# Altium footprint library STM32.PcbLib: 13 footprints
Each footprint in its own frame and in the unit in brackets; x right, y up, seen from the top. Pads: shape width x height; smd on the part's side, far side on the other; paste and mask are expansions set on the pad; w line width, h text height; cw(c..) or ccw(c..) is an arc to the next point about the centre after c.
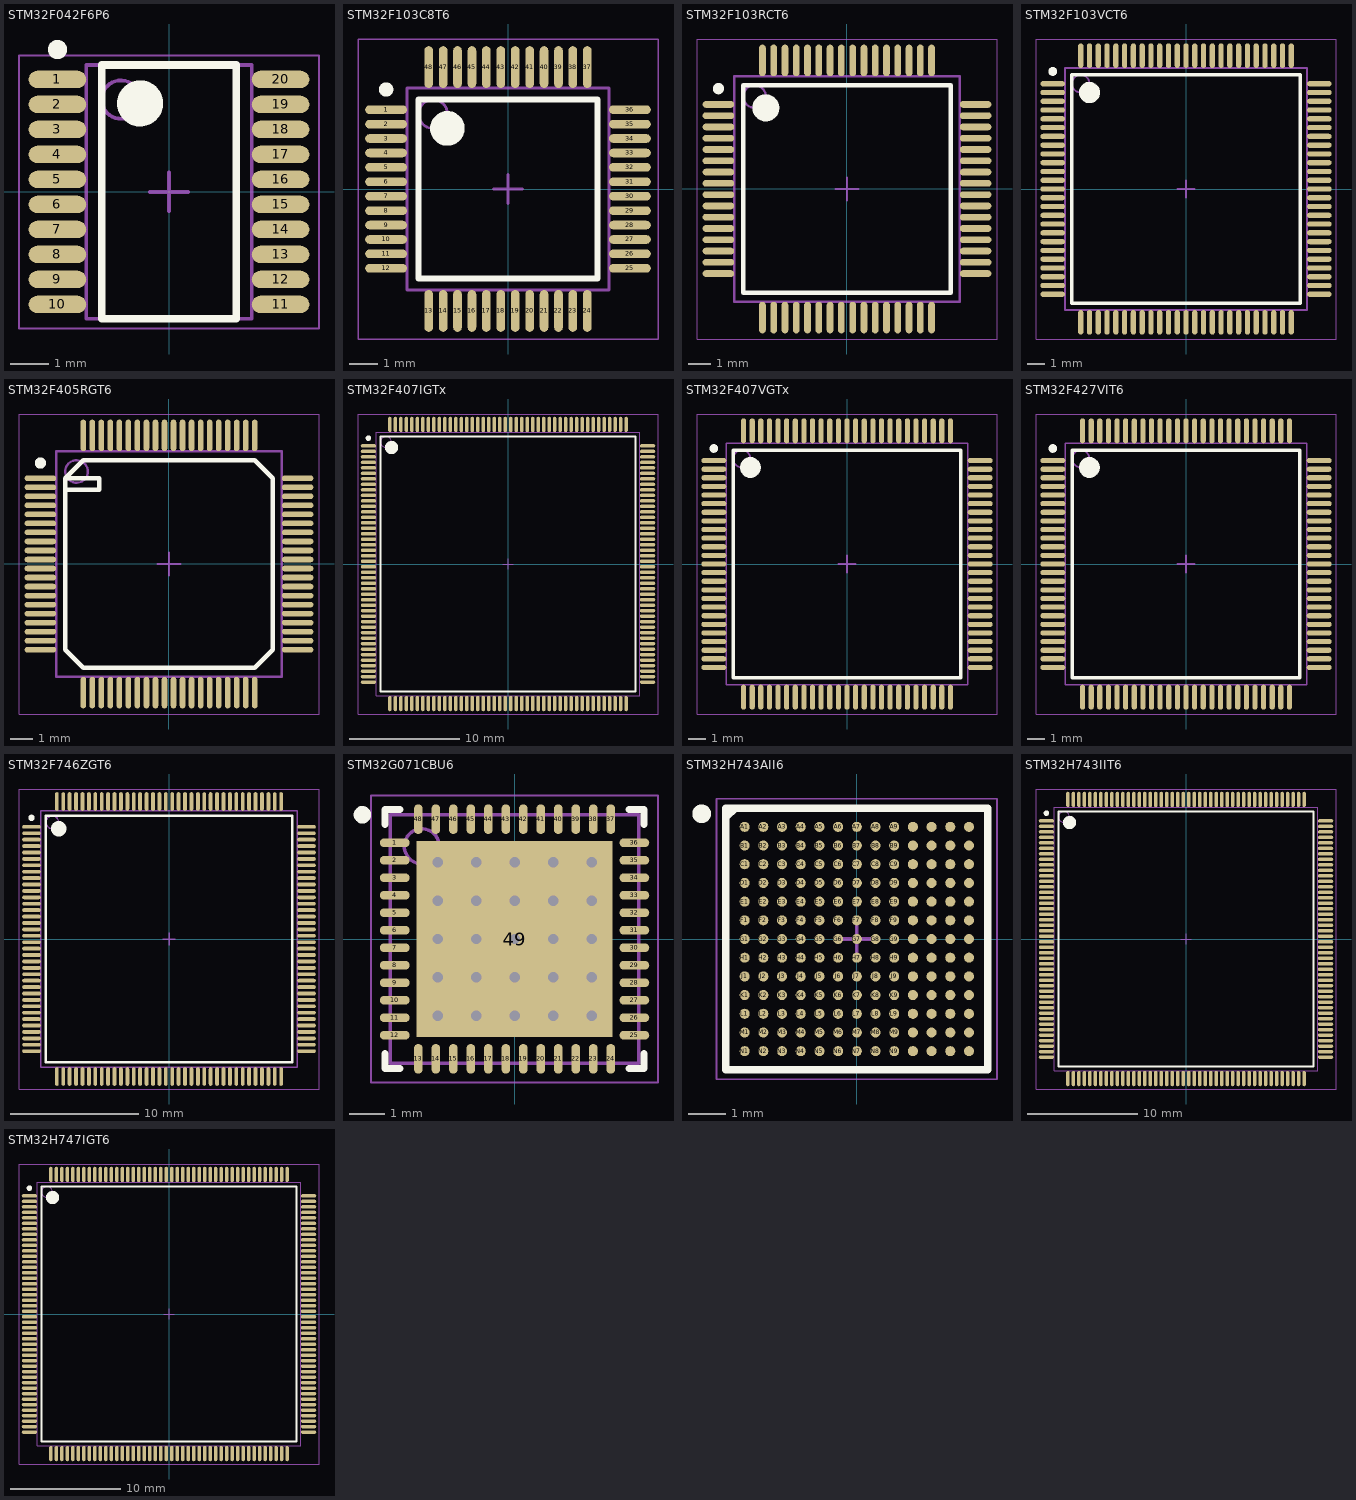
[diagram p0: the footprints below, top view; thin cyan lines are the x and y axes]

## STM32F042F6P6 [mm] "TSOP, 20-Leads, Body 6.50x4.40mm, Pitch 0.65mm, IPC Medium Density"
height 1.2
pads (20):
  oval 1.5x0.45 smd: 1(-2.9,2.925) 2(-2.9,2.275) 3(-2.9,1.625) 4(-2.9,0.975) 5(-2.9,0.325) 6(-2.9,-0.325) 7(-2.9,-0.975) 8(-2.9,-1.625) 9(-2.9,-2.275) 10(-2.9,-2.925) 11(2.9,-2.925) 12(2.9,-2.275) 13(2.9,-1.625) 14(2.9,-0.975) 15(2.9,-0.325) 16(2.9,0.325) 17(2.9,0.975) 18(2.9,1.625) 19(2.9,2.275) 20(2.9,2.925)
Top Overlay:
  circle w0.6: c-0.75,2.3 r0.3
  circle w0.25: c-2.9,3.7 r0.125
  lines w0.2: -1.75,-3.3 1.75,-3.3 1.75,3.3 -1.75,3.3 -1.75,-3.3
Top Designator:
  text ".Designator" at -5.998,-0.4 h1.2
Mechanical 13:
  circle w0.1: c-1.25,2.4 r0.5
  lines w0.1: -2.15,-3.3 2.15,-3.3 2.15,3.3 -2.15,3.3 -2.15,-3.3
Mechanical 15:
  lines w0.05: -3.9,-3.55 3.9,-3.55 3.9,3.55 -3.9,3.55 -3.9,-3.55
  lines w0.1: -0.5,0 0.5,0 ; 0,-0.5 0,0.5
3D body "TSOP65P640X120-20N.step": height 1.2, standoff 0, extent -3.2,-3.3 3.2,3.3

## STM32F103C8T6 [mm] "TSQFP, 48-Leads, Body 7.00x7.00mm, Pitch 0.50mm, IPC Medium Density"
height 1.6
pads (48):
  oval 1.45x0.3 smd: 1(-4.225,2.75) 2(-4.225,2.25) 3(-4.225,1.75) 4(-4.225,1.25) 5(-4.225,0.75) 6(-4.225,0.25) 7(-4.225,-0.25) 8(-4.225,-0.75) 9(-4.225,-1.25) 10(-4.225,-1.75) 11(-4.225,-2.25) 12(-4.225,-2.75) 25(4.225,-2.75) 26(4.225,-2.25) 27(4.225,-1.75) 28(4.225,-1.25) 29(4.225,-0.75) 30(4.225,-0.25) 31(4.225,0.25) 32(4.225,0.75) 33(4.225,1.25) 34(4.225,1.75) 35(4.225,2.25) 36(4.225,2.75)
  oval 0.3x1.45 smd: 13(-2.75,-4.225) 14(-2.25,-4.225) 15(-1.75,-4.225) 16(-1.25,-4.225) 17(-0.75,-4.225) 18(-0.25,-4.225) 19(0.25,-4.225) 20(0.75,-4.225) 21(1.25,-4.225) 22(1.75,-4.225) 23(2.25,-4.225) 24(2.75,-4.225) 37(2.75,4.225) 38(2.25,4.225) 39(1.75,4.225) 40(1.25,4.225) 41(0.75,4.225) 42(0.25,4.225) 43(-0.25,4.225) 44(-0.75,4.225) 45(-1.25,4.225) 46(-1.75,4.225) 47(-2.25,4.225) 48(-2.75,4.225)
Top Overlay:
  circle w0.25: c-4.225,3.45 r0.125
  circle w0.6: c-2.1,2.1 r0.3
  lines w0.2: -3.1,-3.1 -3.1,3.1 3.1,3.1 3.1,-3.1 -3.1,-3.1
Top Designator:
  text ".Designator" at -5.998,-0.4 h1.2
Mechanical 13:
  circle w0.1: c-2.6,2.6 r0.5
  lines w0.1: -3.5,-3.5 -3.5,3.5 3.5,3.5 3.5,-3.5 -3.5,-3.5
Mechanical 15:
  lines w0.05: -5.2,-5.2 -5.2,5.2 5.2,5.2 5.2,-5.2 -5.2,-5.2
  lines w0.1: -0.5,0 0.5,0 ; 0,-0.5 0,0.5
3D body "TSQFP50P900X900X160-48N.step": height 1.6, standoff 0, extent -4.5,-4.5 4.5,4.5

## STM32F103RCT6 [mm] "TSQFP, 64-Leads, Body 10.00x10.00mm, Pitch 0.50mm, IPC Medium Density"
height 1.6
pads (64):
  oval 1.4x0.3 smd: 1(-5.7,3.75) 2(-5.7,3.25) 3(-5.7,2.75) 4(-5.7,2.25) 5(-5.7,1.75) 6(-5.7,1.25) 7(-5.7,0.75) 8(-5.7,0.25) 9(-5.7,-0.25) 10(-5.7,-0.75) 11(-5.7,-1.25) 12(-5.7,-1.75) 13(-5.7,-2.25) 14(-5.7,-2.75) 15(-5.7,-3.25) 16(-5.7,-3.75) 33(5.7,-3.75) 34(5.7,-3.25) 35(5.7,-2.75) 36(5.7,-2.25) 37(5.7,-1.75) 38(5.7,-1.25) 39(5.7,-0.75) 40(5.7,-0.25) 41(5.7,0.25) 42(5.7,0.75) 43(5.7,1.25) 44(5.7,1.75) 45(5.7,2.25) 46(5.7,2.75) 47(5.7,3.25) 48(5.7,3.75)
  oval 0.3x1.4 smd: 17(-3.75,-5.7) 18(-3.25,-5.7) 19(-2.75,-5.7) 20(-2.25,-5.7) 21(-1.75,-5.7) 22(-1.25,-5.7) 23(-0.75,-5.7) 24(-0.25,-5.7) 25(0.25,-5.7) 26(0.75,-5.7) 27(1.25,-5.7) 28(1.75,-5.7) 29(2.25,-5.7) 30(2.75,-5.7) 31(3.25,-5.7) 32(3.75,-5.7) 49(3.75,5.7) 50(3.25,5.7) 51(2.75,5.7) 52(2.25,5.7) 53(1.75,5.7) 54(1.25,5.7) 55(0.75,5.7) 56(0.25,5.7) 57(-0.25,5.7) 58(-0.75,5.7) 59(-1.25,5.7) 60(-1.75,5.7) 61(-2.25,5.7) 62(-2.75,5.7) 63(-3.25,5.7) 64(-3.75,5.7)
Top Overlay:
  circle w0.6: c-3.6,3.6 r0.3
  circle w0.25: c-5.7,4.45 r0.125
  lines w0.2: -4.6,-4.6 4.6,-4.6 4.6,4.6 -4.6,4.6 -4.6,-4.6
Top Designator:
  text ".Designator" at -5.998,-0.4 h1.2
Mechanical 13:
  circle w0.1: c-4.1,4.1 r0.5
  lines w0.1: -5,-5 5,-5 5,5 -5,5 -5,-5
Mechanical 15:
  lines w0.05: -6.65,-6.65 6.65,-6.65 6.65,6.65 -6.65,6.65 -6.65,-6.65
  lines w0.1: -0.5,0 0.5,0 ; 0,-0.5 0,0.5
3D body "QFP127P600-8N.step": height 1.6, standoff 0, extent -6,-6 6,6

## STM32F103VCT6 [mm]
height 1.6
pads (100):
  oval 1.4x0.3 smd: 1(-7.6,6) 2(-7.6,5.5) 3(-7.6,5) 4(-7.6,4.5) 5(-7.6,4) 6(-7.6,3.5) 7(-7.6,3) 8(-7.6,2.5) 9(-7.6,2) 10(-7.6,1.5) 11(-7.6,1) 12(-7.6,0.5) 13(-7.6,0) 14(-7.6,-0.5) 15(-7.6,-1) 16(-7.6,-1.5) 17(-7.6,-2) 18(-7.6,-2.5) 19(-7.6,-3) 20(-7.6,-3.5) 21(-7.6,-4) 22(-7.6,-4.5) 23(-7.6,-5) 24(-7.6,-5.5) 25(-7.6,-6) 51(7.6,-6) 52(7.6,-5.5) 53(7.6,-5) 54(7.6,-4.5) 55(7.6,-4) 56(7.6,-3.5) 57(7.6,-3) 58(7.6,-2.5) 59(7.6,-2) 60(7.6,-1.5) 61(7.6,-1) 62(7.6,-0.5) 63(7.6,0) 64(7.6,0.5) 65(7.6,1) 66(7.6,1.5) 67(7.6,2) 68(7.6,2.5) 69(7.6,3) 70(7.6,3.5) 71(7.6,4) 72(7.6,4.5) 73(7.6,5) 74(7.6,5.5) 75(7.6,6)
  oval 0.3x1.4 smd: 26(-6,-7.6) 27(-5.5,-7.6) 28(-5,-7.6) 29(-4.5,-7.6) 30(-4,-7.6) 31(-3.5,-7.6) 32(-3,-7.6) 33(-2.5,-7.6) 34(-2,-7.6) 35(-1.5,-7.6) 36(-1,-7.6) 37(-0.5,-7.6) 38(0,-7.6) 39(0.5,-7.6) 40(1,-7.6) 41(1.5,-7.6) 42(2,-7.6) 43(2.5,-7.6) 44(3,-7.6) 45(3.5,-7.6) 46(4,-7.6) 47(4.5,-7.6) 48(5,-7.6) 49(5.5,-7.6) 50(6,-7.6) 76(6,7.6) 77(5.5,7.6) 78(5,7.6) 79(4.5,7.6) 80(4,7.6) 81(3.5,7.6) 82(3,7.6) 83(2.5,7.6) 84(2,7.6) 85(1.5,7.6) 86(1,7.6) 87(0.5,7.6) 88(0,7.6) 89(-0.5,7.6) 90(-1,7.6) 91(-1.5,7.6) 92(-2,7.6) 93(-2.5,7.6) 94(-3,7.6) 95(-3.5,7.6) 96(-4,7.6) 97(-4.5,7.6) 98(-5,7.6) 99(-5.5,7.6) 100(-6,7.6)
Top Overlay:
  circle w0.6: c-5.5,5.5 r0.3
  circle w0.25: c-7.6,6.7 r0.125
  lines w0.2: -6.5,-6.5 6.5,-6.5 6.5,6.5 -6.5,6.5 -6.5,-6.5
Top Assembly:
  circle w0.1: c-6,6 r0.5
  lines w0.1: -6.9,-6.9 6.9,-6.9 6.9,6.9 -6.9,6.9 -6.9,-6.9
Top Courtyard:
  lines w0.05: -8.55,-8.55 8.55,-8.55 8.55,8.55 -8.55,8.55 -8.55,-8.55
  lines w0.1: -0.5,0 0.5,0 ; 0,-0.5 0,0.5
Top Designator:
  text ".Designator" at -5.998,-0.4 h1.2
3D body "QFP127P600-8N.step": height 1.6, standoff 0, extent -7.9,-7.9 7.9,7.9

## STM32F405RGT6 [mm] "CQFP, 80-Leads, Body 12.00x12.00mm, Pitch 0.40mm, IPC Medium Density"
height 1.6
pads (80):
  oval 1.4x0.25 smd: 1(-5.7,3.8) 2(-5.7,3.4) 3(-5.7,3) 4(-5.7,2.6) 5(-5.7,2.2) 6(-5.7,1.8) 7(-5.7,1.4) 8(-5.7,1) 9(-5.7,0.6) 10(-5.7,0.2) 11(-5.7,-0.2) 12(-5.7,-0.6) 13(-5.7,-1) 14(-5.7,-1.4) 15(-5.7,-1.8) 16(-5.7,-2.2) 17(-5.7,-2.6) 18(-5.7,-3) 19(-5.7,-3.4) 20(-5.7,-3.8) 41(5.7,-3.8) 42(5.7,-3.4) 43(5.7,-3) 44(5.7,-2.6) 45(5.7,-2.2) 46(5.7,-1.8) 47(5.7,-1.4) 48(5.7,-1) 49(5.7,-0.6) 50(5.7,-0.2) 51(5.7,0.2) 52(5.7,0.6) 53(5.7,1) 54(5.7,1.4) 55(5.7,1.8) 56(5.7,2.2) 57(5.7,2.6) 58(5.7,3) 59(5.7,3.4) 60(5.7,3.8)
  oval 0.25x1.4 smd: 21(-3.8,-5.7) 22(-3.4,-5.7) 23(-3,-5.7) 24(-2.6,-5.7) 25(-2.2,-5.7) 26(-1.8,-5.7) 27(-1.4,-5.7) 28(-1,-5.7) 29(-0.6,-5.7) 30(-0.2,-5.7) 31(0.2,-5.7) 32(0.6,-5.7) 33(1,-5.7) 34(1.4,-5.7) 35(1.8,-5.7) 36(2.2,-5.7) 37(2.6,-5.7) 38(3,-5.7) 39(3.4,-5.7) 40(3.8,-5.7) 61(3.8,5.7) 62(3.4,5.7) 63(3,5.7) 64(2.6,5.7) 65(2.2,5.7) 66(1.8,5.7) 67(1.4,5.7) 68(1,5.7) 69(0.6,5.7) 70(0.2,5.7) 71(-0.2,5.7) 72(-0.6,5.7) 73(-1,5.7) 74(-1.4,5.7) 75(-1.8,5.7) 76(-2.2,5.7) 77(-2.6,5.7) 78(-3,5.7) 79(-3.4,5.7) 80(-3.8,5.7)
Top Overlay:
  circle w0.25: c-5.7,4.475 r0.125
  lines w0.2: -4.6,3.3 -3.1,3.3 -3.1,3.8 -4.6,3.8 ; -4.6,3.8 -4.6,-3.8 -3.8,-4.6 3.8,-4.6 4.6,-3.8 4.6,3.8 3.8,4.6 -3.8,4.6 -4.6,3.8
Top Designator:
  text ".Designator" at -5.998,-0.4 h1.2
Mechanical 13:
  circle w0.1: c-4.1,4.1 r0.5
  lines w0.1: -5,-5 -5,5 5,5 5,-5 -5,-5
Mechanical 15:
  lines w0.05: -6.65,-6.65 -6.65,6.65 6.65,6.65 6.65,-6.65 -6.65,-6.65
  lines w0.1: -0.5,0 0.5,0 ; 0,-0.5 0,0.5
3D body "CQFP40P1200X1200X160-80N.step": height 1.55, standoff 0, extent -6,-6 6,6

## STM32F407IGTx [mm] "TSQFP, 176-Leads, Body 24.00x24.00mm, Pitch 0.50mm, IPC Medium Density"
height 1.6
pads (176):
  oval 1.4x0.3 smd: 1(-12.7,10.75) 2(-12.7,10.25) 3(-12.7,9.75) 4(-12.7,9.25) 5(-12.7,8.75) 6(-12.7,8.25) 7(-12.7,7.75) 8(-12.7,7.25) 9(-12.7,6.75) 10(-12.7,6.25) 11(-12.7,5.75) 12(-12.7,5.25) 13(-12.7,4.75) 14(-12.7,4.25) 15(-12.7,3.75) 16(-12.7,3.25) 17(-12.7,2.75) 18(-12.7,2.25) 19(-12.7,1.75) 20(-12.7,1.25) 21(-12.7,0.75) 22(-12.7,0.25) 23(-12.7,-0.25) 24(-12.7,-0.75) 25(-12.7,-1.25) 26(-12.7,-1.75) 27(-12.7,-2.25) 28(-12.7,-2.75) 29(-12.7,-3.25) 30(-12.7,-3.75) 31(-12.7,-4.25) 32(-12.7,-4.75) 33(-12.7,-5.25) 34(-12.7,-5.75) 35(-12.7,-6.25) 36(-12.7,-6.75) 37(-12.7,-7.25) 38(-12.7,-7.75) 39(-12.7,-8.25) 40(-12.7,-8.75) 41(-12.7,-9.25) 42(-12.7,-9.75) 43(-12.7,-10.25) 44(-12.7,-10.75) 89(12.7,-10.75) 90(12.7,-10.25) 91(12.7,-9.75) 92(12.7,-9.25) 93(12.7,-8.75) 94(12.7,-8.25) 95(12.7,-7.75) 96(12.7,-7.25) 97(12.7,-6.75) 98(12.7,-6.25) 99(12.7,-5.75) 100(12.7,-5.25) 101(12.7,-4.75) 102(12.7,-4.25) 103(12.7,-3.75) 104(12.7,-3.25) 105(12.7,-2.75) 106(12.7,-2.25) 107(12.7,-1.75) 108(12.7,-1.25) 109(12.7,-0.75) 110(12.7,-0.25) 111(12.7,0.25) 112(12.7,0.75) 113(12.7,1.25) 114(12.7,1.75) 115(12.7,2.25) 116(12.7,2.75) 117(12.7,3.25) 118(12.7,3.75) 119(12.7,4.25) 120(12.7,4.75) 121(12.7,5.25) 122(12.7,5.75) 123(12.7,6.25) 124(12.7,6.75) 125(12.7,7.25) 126(12.7,7.75) 127(12.7,8.25) 128(12.7,8.75) 129(12.7,9.25) 130(12.7,9.75) 131(12.7,10.25) 132(12.7,10.75)
  oval 0.3x1.4 smd: 45(-10.75,-12.7) 46(-10.25,-12.7) 47(-9.75,-12.7) 48(-9.25,-12.7) 49(-8.75,-12.7) 50(-8.25,-12.7) 51(-7.75,-12.7) 52(-7.25,-12.7) 53(-6.75,-12.7) 54(-6.25,-12.7) 55(-5.75,-12.7) 56(-5.25,-12.7) 57(-4.75,-12.7) 58(-4.25,-12.7) 59(-3.75,-12.7) 60(-3.25,-12.7) 61(-2.75,-12.7) 62(-2.25,-12.7) 63(-1.75,-12.7) 64(-1.25,-12.7) 65(-0.75,-12.7) 66(-0.25,-12.7) 67(0.25,-12.7) 68(0.75,-12.7) 69(1.25,-12.7) 70(1.75,-12.7) 71(2.25,-12.7) 72(2.75,-12.7) 73(3.25,-12.7) 74(3.75,-12.7) 75(4.25,-12.7) 76(4.75,-12.7) 77(5.25,-12.7) 78(5.75,-12.7) 79(6.25,-12.7) 80(6.75,-12.7) 81(7.25,-12.7) 82(7.75,-12.7) 83(8.25,-12.7) 84(8.75,-12.7) 85(9.25,-12.7) 86(9.75,-12.7) 87(10.25,-12.7) 88(10.75,-12.7) 133(10.75,12.7) 134(10.25,12.7) 135(9.75,12.7) 136(9.25,12.7) 137(8.75,12.7) 138(8.25,12.7) 139(7.75,12.7) 140(7.25,12.7) 141(6.75,12.7) 142(6.25,12.7) 143(5.75,12.7) 144(5.25,12.7) 145(4.75,12.7) 146(4.25,12.7) 147(3.75,12.7) 148(3.25,12.7) 149(2.75,12.7) 150(2.25,12.7) 151(1.75,12.7) 152(1.25,12.7) 153(0.75,12.7) 154(0.25,12.7) 155(-0.25,12.7) 156(-0.75,12.7) 157(-1.25,12.7) 158(-1.75,12.7) 159(-2.25,12.7) 160(-2.75,12.7) 161(-3.25,12.7) 162(-3.75,12.7) 163(-4.25,12.7) 164(-4.75,12.7) 165(-5.25,12.7) 166(-5.75,12.7) 167(-6.25,12.7) 168(-6.75,12.7) 169(-7.25,12.7) 170(-7.75,12.7) 171(-8.25,12.7) 172(-8.75,12.7) 173(-9.25,12.7) 174(-9.75,12.7) 175(-10.25,12.7) 176(-10.75,12.7)
Top Overlay:
  circle w0.6: c-10.6,10.6 r0.3
  circle w0.25: c-12.7,11.45 r0.125
  lines w0.2: -11.6,-11.6 11.6,-11.6 11.6,11.6 -11.6,11.6 -11.6,-11.6
Top Designator:
  text ".Designator" at -5.998,-0.4 h1.2
Mechanical 13:
  circle w0.1: c-11.1,11.1 r0.5
  lines w0.1: -12,-12 12,-12 12,12 -12,12 -12,-12
Mechanical 15:
  lines w0.05: -13.65,-13.65 13.65,-13.65 13.65,13.65 -13.65,13.65 -13.65,-13.65
  lines w0.1: -0.5,0 0.5,0 ; 0,-0.5 0,0.5
3D body "TSQFP50P2600X2600X160-176N.step": height 1.6, standoff 0, extent -13,-13 13,13

## STM32F407VGTx [mm] "TSQFP, 100-Leads, Body 14.00x14.00mm, Pitch 0.50mm, IPC Medium Density"
height 1.6
pads (100):
  oval 1.45x0.3 smd: 1(-7.725,6) 2(-7.725,5.5) 3(-7.725,5) 4(-7.725,4.5) 5(-7.725,4) 6(-7.725,3.5) 7(-7.725,3) 8(-7.725,2.5) 9(-7.725,2) 10(-7.725,1.5) 11(-7.725,1) 12(-7.725,0.5) 13(-7.725,0) 14(-7.725,-0.5) 15(-7.725,-1) 16(-7.725,-1.5) 17(-7.725,-2) 18(-7.725,-2.5) 19(-7.725,-3) 20(-7.725,-3.5) 21(-7.725,-4) 22(-7.725,-4.5) 23(-7.725,-5) 24(-7.725,-5.5) 25(-7.725,-6) 51(7.725,-6) 52(7.725,-5.5) 53(7.725,-5) 54(7.725,-4.5) 55(7.725,-4) 56(7.725,-3.5) 57(7.725,-3) 58(7.725,-2.5) 59(7.725,-2) 60(7.725,-1.5) 61(7.725,-1) 62(7.725,-0.5) 63(7.725,0) 64(7.725,0.5) 65(7.725,1) 66(7.725,1.5) 67(7.725,2) 68(7.725,2.5) 69(7.725,3) 70(7.725,3.5) 71(7.725,4) 72(7.725,4.5) 73(7.725,5) 74(7.725,5.5) 75(7.725,6)
  oval 0.3x1.45 smd: 26(-6,-7.725) 27(-5.5,-7.725) 28(-5,-7.725) 29(-4.5,-7.725) 30(-4,-7.725) 31(-3.5,-7.725) 32(-3,-7.725) 33(-2.5,-7.725) 34(-2,-7.725) 35(-1.5,-7.725) 36(-1,-7.725) 37(-0.5,-7.725) 38(0,-7.725) 39(0.5,-7.725) 40(1,-7.725) 41(1.5,-7.725) 42(2,-7.725) 43(2.5,-7.725) 44(3,-7.725) 45(3.5,-7.725) 46(4,-7.725) 47(4.5,-7.725) 48(5,-7.725) 49(5.5,-7.725) 50(6,-7.725) 76(6,7.725) 77(5.5,7.725) 78(5,7.725) 79(4.5,7.725) 80(4,7.725) 81(3.5,7.725) 82(3,7.725) 83(2.5,7.725) 84(2,7.725) 85(1.5,7.725) 86(1,7.725) 87(0.5,7.725) 88(0,7.725) 89(-0.5,7.725) 90(-1,7.725) 91(-1.5,7.725) 92(-2,7.725) 93(-2.5,7.725) 94(-3,7.725) 95(-3.5,7.725) 96(-4,7.725) 97(-4.5,7.725) 98(-5,7.725) 99(-5.5,7.725) 100(-6,7.725)
Top Overlay:
  circle w0.25: c-7.725,6.7 r0.125
  circle w0.6: c-5.6,5.6 r0.3
  lines w0.2: -6.6,-6.6 -6.6,6.6 6.6,6.6 6.6,-6.6 -6.6,-6.6
Top Designator:
  text ".Designator" at -5.998,-0.4 h1.2
Mechanical 13:
  circle w0.1: c-6.1,6.1 r0.5
  lines w0.1: -7,-7 -7,7 7,7 7,-7 -7,-7
Mechanical 15:
  lines w0.05: -8.7,-8.7 -8.7,8.7 8.7,8.7 8.7,-8.7 -8.7,-8.7
  lines w0.1: -0.5,0 0.5,0 ; 0,-0.5 0,0.5
3D body "TSQFP50P1600X1600X160-100N.step": height 1.6, standoff 0, extent -8,-8 8,8

## STM32F427VIT6 [mm] "TSQFP, 100-Leads, Body 14.00x14.00mm, Pitch 0.50mm, IPC Medium Density"
height 1.6
pads (100):
  oval 1.45x0.3 smd: 1(-7.725,6) 2(-7.725,5.5) 3(-7.725,5) 4(-7.725,4.5) 5(-7.725,4) 6(-7.725,3.5) 7(-7.725,3) 8(-7.725,2.5) 9(-7.725,2) 10(-7.725,1.5) 11(-7.725,1) 12(-7.725,0.5) 13(-7.725,0) 14(-7.725,-0.5) 15(-7.725,-1) 16(-7.725,-1.5) 17(-7.725,-2) 18(-7.725,-2.5) 19(-7.725,-3) 20(-7.725,-3.5) 21(-7.725,-4) 22(-7.725,-4.5) 23(-7.725,-5) 24(-7.725,-5.5) 25(-7.725,-6) 51(7.725,-6) 52(7.725,-5.5) 53(7.725,-5) 54(7.725,-4.5) 55(7.725,-4) 56(7.725,-3.5) 57(7.725,-3) 58(7.725,-2.5) 59(7.725,-2) 60(7.725,-1.5) 61(7.725,-1) 62(7.725,-0.5) 63(7.725,0) 64(7.725,0.5) 65(7.725,1) 66(7.725,1.5) 67(7.725,2) 68(7.725,2.5) 69(7.725,3) 70(7.725,3.5) 71(7.725,4) 72(7.725,4.5) 73(7.725,5) 74(7.725,5.5) 75(7.725,6)
  oval 0.3x1.45 smd: 26(-6,-7.725) 27(-5.5,-7.725) 28(-5,-7.725) 29(-4.5,-7.725) 30(-4,-7.725) 31(-3.5,-7.725) 32(-3,-7.725) 33(-2.5,-7.725) 34(-2,-7.725) 35(-1.5,-7.725) 36(-1,-7.725) 37(-0.5,-7.725) 38(0,-7.725) 39(0.5,-7.725) 40(1,-7.725) 41(1.5,-7.725) 42(2,-7.725) 43(2.5,-7.725) 44(3,-7.725) 45(3.5,-7.725) 46(4,-7.725) 47(4.5,-7.725) 48(5,-7.725) 49(5.5,-7.725) 50(6,-7.725) 76(6,7.725) 77(5.5,7.725) 78(5,7.725) 79(4.5,7.725) 80(4,7.725) 81(3.5,7.725) 82(3,7.725) 83(2.5,7.725) 84(2,7.725) 85(1.5,7.725) 86(1,7.725) 87(0.5,7.725) 88(0,7.725) 89(-0.5,7.725) 90(-1,7.725) 91(-1.5,7.725) 92(-2,7.725) 93(-2.5,7.725) 94(-3,7.725) 95(-3.5,7.725) 96(-4,7.725) 97(-4.5,7.725) 98(-5,7.725) 99(-5.5,7.725) 100(-6,7.725)
Top Overlay:
  circle w0.25: c-7.725,6.7 r0.125
  circle w0.6: c-5.6,5.6 r0.3
  lines w0.2: -6.6,-6.6 -6.6,6.6 6.6,6.6 6.6,-6.6 -6.6,-6.6
Top Designator:
  text ".Designator" at -5.998,-0.4 h1.2
Mechanical 13:
  circle w0.1: c-6.1,6.1 r0.5
  lines w0.1: -7,-7 -7,7 7,7 7,-7 -7,-7
Mechanical 15:
  lines w0.05: -8.7,-8.7 -8.7,8.7 8.7,8.7 8.7,-8.7 -8.7,-8.7
  lines w0.1: -0.5,0 0.5,0 ; 0,-0.5 0,0.5
3D body "TSQFP50P1600X1600X160-100N.step": height 1.6, standoff 0, extent -8,-8 8,8

## STM32F746ZGT6 [mm] "TSQFP, 144-Leads, Body 20.00x20.00mm, Pitch 0.50mm, IPC Medium Density"
height 1.6
pads (144):
  oval 1.45x0.3 smd: 1(-10.725,8.75) 2(-10.725,8.25) 3(-10.725,7.75) 4(-10.725,7.25) 5(-10.725,6.75) 6(-10.725,6.25) 7(-10.725,5.75) 8(-10.725,5.25) 9(-10.725,4.75) 10(-10.725,4.25) 11(-10.725,3.75) 12(-10.725,3.25) 13(-10.725,2.75) 14(-10.725,2.25) 15(-10.725,1.75) 16(-10.725,1.25) 17(-10.725,0.75) 18(-10.725,0.25) 19(-10.725,-0.25) 20(-10.725,-0.75) 21(-10.725,-1.25) 22(-10.725,-1.75) 23(-10.725,-2.25) 24(-10.725,-2.75) 25(-10.725,-3.25) 26(-10.725,-3.75) 27(-10.725,-4.25) 28(-10.725,-4.75) 29(-10.725,-5.25) 30(-10.725,-5.75) 31(-10.725,-6.25) 32(-10.725,-6.75) 33(-10.725,-7.25) 34(-10.725,-7.75) 35(-10.725,-8.25) 36(-10.725,-8.75) 73(10.725,-8.75) 74(10.725,-8.25) 75(10.725,-7.75) 76(10.725,-7.25) 77(10.725,-6.75) 78(10.725,-6.25) 79(10.725,-5.75) 80(10.725,-5.25) 81(10.725,-4.75) 82(10.725,-4.25) 83(10.725,-3.75) 84(10.725,-3.25) 85(10.725,-2.75) 86(10.725,-2.25) 87(10.725,-1.75) 88(10.725,-1.25) 89(10.725,-0.75) 90(10.725,-0.25) 91(10.725,0.25) 92(10.725,0.75) 93(10.725,1.25) 94(10.725,1.75) 95(10.725,2.25) 96(10.725,2.75) 97(10.725,3.25) 98(10.725,3.75) 99(10.725,4.25) 100(10.725,4.75) 101(10.725,5.25) 102(10.725,5.75) 103(10.725,6.25) 104(10.725,6.75) 105(10.725,7.25) 106(10.725,7.75) 107(10.725,8.25) 108(10.725,8.75)
  oval 0.3x1.45 smd: 37(-8.75,-10.725) 38(-8.25,-10.725) 39(-7.75,-10.725) 40(-7.25,-10.725) 41(-6.75,-10.725) 42(-6.25,-10.725) 43(-5.75,-10.725) 44(-5.25,-10.725) 45(-4.75,-10.725) 46(-4.25,-10.725) 47(-3.75,-10.725) 48(-3.25,-10.725) 49(-2.75,-10.725) 50(-2.25,-10.725) 51(-1.75,-10.725) 52(-1.25,-10.725) 53(-0.75,-10.725) 54(-0.25,-10.725) 55(0.25,-10.725) 56(0.75,-10.725) 57(1.25,-10.725) 58(1.75,-10.725) 59(2.25,-10.725) 60(2.75,-10.725) 61(3.25,-10.725) 62(3.75,-10.725) 63(4.25,-10.725) 64(4.75,-10.725) 65(5.25,-10.725) 66(5.75,-10.725) 67(6.25,-10.725) 68(6.75,-10.725) 69(7.25,-10.725) 70(7.75,-10.725) 71(8.25,-10.725) 72(8.75,-10.725) 109(8.75,10.725) 110(8.25,10.725) 111(7.75,10.725) 112(7.25,10.725) 113(6.75,10.725) 114(6.25,10.725) 115(5.75,10.725) 116(5.25,10.725) 117(4.75,10.725) 118(4.25,10.725) 119(3.75,10.725) 120(3.25,10.725) 121(2.75,10.725) 122(2.25,10.725) 123(1.75,10.725) 124(1.25,10.725) 125(0.75,10.725) 126(0.25,10.725) 127(-0.25,10.725) 128(-0.75,10.725) 129(-1.25,10.725) 130(-1.75,10.725) 131(-2.25,10.725) 132(-2.75,10.725) 133(-3.25,10.725) 134(-3.75,10.725) 135(-4.25,10.725) 136(-4.75,10.725) 137(-5.25,10.725) 138(-5.75,10.725) 139(-6.25,10.725) 140(-6.75,10.725) 141(-7.25,10.725) 142(-7.75,10.725) 143(-8.25,10.725) 144(-8.75,10.725)
Top Overlay:
  circle w0.25: c-10.725,9.45 r0.125
  circle w0.6: c-8.6,8.6 r0.3
  lines w0.2: -9.6,-9.6 -9.6,9.6 9.6,9.6 9.6,-9.6 -9.6,-9.6
Top Designator:
  text ".Designator" at -5.998,-0.4 h1.2
Mechanical 13:
  circle w0.1: c-9.1,9.1 r0.5
  lines w0.1: -10,-10 -10,10 10,10 10,-10 -10,-10
Mechanical 15:
  lines w0.05: -11.7,-11.7 -11.7,11.7 11.7,11.7 11.7,-11.7 -11.7,-11.7
  lines w0.1: -0.5,0 0.5,0 ; 0,-0.5 0,0.5
3D body "TSQFP50P2200X2200X160-144N.step": height 1.6, standoff 0, extent -11,-11 11,11

## STM32G071CBU6 [mm] "QFN, 48-Leads, Body 7.00x7.00mm, Pitch 0.50mm, Thermal Pad 5.60x5.60mm, IPC Medium Density"
height 0.6
pads (49):
  oval 0.85x0.25 smd: 1(-3.425,2.75) 2(-3.425,2.25) 3(-3.425,1.75) 4(-3.425,1.25) 5(-3.425,0.75) 6(-3.425,0.25) 7(-3.425,-0.25) 8(-3.425,-0.75) 9(-3.425,-1.25) 10(-3.425,-1.75) 11(-3.425,-2.25) 12(-3.425,-2.75) 25(3.425,-2.75) 26(3.425,-2.25) 27(3.425,-1.75) 28(3.425,-1.25) 29(3.425,-0.75) 30(3.425,-0.25) 31(3.425,0.25) 32(3.425,0.75) 33(3.425,1.25) 34(3.425,1.75) 35(3.425,2.25) 36(3.425,2.75)
  oval 0.25x0.85 smd: 13(-2.75,-3.425) 14(-2.25,-3.425) 15(-1.75,-3.425) 16(-1.25,-3.425) 17(-0.75,-3.425) 18(-0.25,-3.425) 19(0.25,-3.425) 20(0.75,-3.425) 21(1.25,-3.425) 22(1.75,-3.425) 23(2.25,-3.425) 24(2.75,-3.425) 37(2.75,3.425) 38(2.25,3.425) 39(1.75,3.425) 40(1.25,3.425) 41(0.75,3.425) 42(0.25,3.425) 43(-0.25,3.425) 44(-0.75,3.425) 45(-1.25,3.425) 46(-1.75,3.425) 47(-2.25,3.425) 48(-2.75,3.425)
  rect 5.6x5.6 smd: 49(0,0)
via 0,0 diameter 0.5 hole 0.3
via 2.2,-2.2 diameter 0.5 hole 0.3
via 1.1,-2.2 diameter 0.5 hole 0.3
via 0,-2.2 diameter 0.5 hole 0.3
via -1.1,-2.2 diameter 0.5 hole 0.3
via -2.2,-2.2 diameter 0.5 hole 0.3
via 2.2,-1.1 diameter 0.5 hole 0.3
via 1.1,-1.1 diameter 0.5 hole 0.3
via 0,-1.1 diameter 0.5 hole 0.3
via -1.1,-1.1 diameter 0.5 hole 0.3
via -2.2,-1.1 diameter 0.5 hole 0.3
via 2.2,0 diameter 0.5 hole 0.3
via 1.1,0 diameter 0.5 hole 0.3
via -1.1,0 diameter 0.5 hole 0.3
via -2.2,0 diameter 0.5 hole 0.3
via 2.2,1.1 diameter 0.5 hole 0.3
via 1.1,1.1 diameter 0.5 hole 0.3
via 0,1.1 diameter 0.5 hole 0.3
via -1.1,1.1 diameter 0.5 hole 0.3
via -2.2,1.1 diameter 0.5 hole 0.3
via 2.2,2.2 diameter 0.5 hole 0.3
via 1.1,2.2 diameter 0.5 hole 0.3
via 0,2.2 diameter 0.5 hole 0.3
via -1.1,2.2 diameter 0.5 hole 0.3
via -2.2,2.2 diameter 0.5 hole 0.3
Top Overlay:
  circle w0.25: c-4.35,3.55 r0.125
  lines w0.2: -3.7,-3.275 -3.7,-3.7 -3.275,-3.7 ; -3.7,3.275 -3.7,3.7 -3.275,3.7 ; 3.275,-3.7 3.7,-3.7 3.7,-3.275 ; 3.275,3.7 3.7,3.7 3.7,3.275
Top Assembly:
  circle w0.1: c-2.65,2.65 r0.5
  lines w0.1: -3.55,-3.55 3.55,-3.55 3.55,3.55 -3.55,3.55 -3.55,-3.55
Top Courtyard:
  lines w0.05: -4.1,-4.1 4.1,-4.1 4.1,4.1 -4.1,4.1 -4.1,-4.1
  lines w0.1: -0.5,0 0.5,0 ; 0,-0.5 0,0.5
Top Designator:
  text ".Designator" at -5.998,-0.4 h1.2
3D body "QFN50P700X700X60_HS-49N.step": height 0.6, standoff 0, extent -3.551,-3.551 3.551,3.551

## STM32H743AII6 [mm] "BGA, 169-Leads, Body 7.00x7.00mmx0.60mm, Pitch 0.50mm"
height 0.6
pads (169):
  round 0.27 smd: A1(-3,3) A2(-2.5,3) A3(-2,3) A4(-1.5,3) A5(-1,3) A6(-0.5,3) A7(0,3) A8(0.5,3) A9(1,3) A10(1.5,3) A11(2,3) A12(2.5,3) A13(3,3) B1(-3,2.5) B2(-2.5,2.5) B3(-2,2.5) B4(-1.5,2.5) B5(-1,2.5) B6(-0.5,2.5) B7(0,2.5) B8(0.5,2.5) B9(1,2.5) B10(1.5,2.5) B11(2,2.5) B12(2.5,2.5) B13(3,2.5) C1(-3,2) C2(-2.5,2) C3(-2,2) C4(-1.5,2) C5(-1,2) C6(-0.5,2) C7(0,2) C8(0.5,2) C9(1,2) C10(1.5,2) C11(2,2) C12(2.5,2) C13(3,2) D1(-3,1.5) D2(-2.5,1.5) D3(-2,1.5) D4(-1.5,1.5) D5(-1,1.5) D6(-0.5,1.5) D7(0,1.5) D8(0.5,1.5) D9(1,1.5) D10(1.5,1.5) D11(2,1.5) D12(2.5,1.5) D13(3,1.5) E1(-3,1) E2(-2.5,1) E3(-2,1) E4(-1.5,1) E5(-1,1) E6(-0.5,1) E7(0,1) E8(0.5,1) E9(1,1) E10(1.5,1) E11(2,1) E12(2.5,1) E13(3,1) F1(-3,0.5) F2(-2.5,0.5) F3(-2,0.5) F4(-1.5,0.5) F5(-1,0.5) F6(-0.5,0.5) F7(0,0.5) F8(0.5,0.5) F9(1,0.5) F10(1.5,0.5) F11(2,0.5) F12(2.5,0.5) F13(3,0.5) G1(-3,0) G2(-2.5,0) G3(-2,0) G4(-1.5,0) G5(-1,0) G6(-0.5,0) G7(0,0) G8(0.5,0) G9(1,0) G10(1.5,0) G11(2,0) G12(2.5,0) G13(3,0) H1(-3,-0.5) H2(-2.5,-0.5) H3(-2,-0.5) H4(-1.5,-0.5) H5(-1,-0.5) H6(-0.5,-0.5) H7(0,-0.5) H8(0.5,-0.5) H9(1,-0.5) H10(1.5,-0.5) H11(2,-0.5) H12(2.5,-0.5) H13(3,-0.5) J1(-3,-1) J2(-2.5,-1) J3(-2,-1) J4(-1.5,-1) J5(-1,-1) J6(-0.5,-1) J7(0,-1) J8(0.5,-1) J9(1,-1) J10(1.5,-1) J11(2,-1) J12(2.5,-1) J13(3,-1) K1(-3,-1.5) K2(-2.5,-1.5) K3(-2,-1.5) K4(-1.5,-1.5) K5(-1,-1.5) K6(-0.5,-1.5) K7(0,-1.5) K8(0.5,-1.5) K9(1,-1.5) K10(1.5,-1.5) K11(2,-1.5) K12(2.5,-1.5) K13(3,-1.5) L1(-3,-2) L2(-2.5,-2) L3(-2,-2) L4(-1.5,-2) L5(-1,-2) L6(-0.5,-2) L7(0,-2) L8(0.5,-2) L9(1,-2) L10(1.5,-2) L11(2,-2) L12(2.5,-2) L13(3,-2) M1(-3,-2.5) M2(-2.5,-2.5) M3(-2,-2.5) M4(-1.5,-2.5) M5(-1,-2.5) M6(-0.5,-2.5) M7(0,-2.5) M8(0.5,-2.5) M9(1,-2.5) M10(1.5,-2.5) M11(2,-2.5) M12(2.5,-2.5) M13(3,-2.5) N1(-3,-3) N2(-2.5,-3) N3(-2,-3) N4(-1.5,-3) N5(-1,-3) N6(-0.5,-3) N7(0,-3) N8(0.5,-3) N9(1,-3) N10(1.5,-3) N11(2,-3) N12(2.5,-3) N13(3,-3)
Top Overlay:
  circle w0.25: c-4.15,3.35 r0.125
  region: -3.257,3.5 -3.5,3.257 -3.5,3.5
  lines w0.2: -3.5,3.257 -3.257,3.5 ; -3.5,-3.5 3.5,-3.5 3.5,3.5 -3.5,3.5 -3.5,-3.5
Top Assembly:
  lines w0.1: -3.5,-3.5 3.5,-3.5 3.5,3.5 -3.5,3.5 -3.5,-3.5
Top Courtyard:
  lines w0.05: -3.75,-3.75 3.75,-3.75 3.75,3.75 -3.75,3.75 -3.75,-3.75
  lines w0.1: -0.5,0 0.5,0 ; 0,-0.5 0,0.5
3D body "BGA169C50P13X13_700X700X60.step": height 0.6, standoff 0, extent -3.5,-3.5 3.5,3.5

## STM32H743IIT6 [mm] "LQFP is a 176-pin, 24 x 24 mm, 0.5 mm pitch, low profile quad flat package."
height 1.6
pads (176):
  oval 1.4x0.3 smd: 1(-12.7,10.75) 2(-12.7,10.25) 3(-12.7,9.75) 4(-12.7,9.25) 5(-12.7,8.75) 6(-12.7,8.25) 7(-12.7,7.75) 8(-12.7,7.25) 9(-12.7,6.75) 10(-12.7,6.25) 11(-12.7,5.75) 12(-12.7,5.25) 13(-12.7,4.75) 14(-12.7,4.25) 15(-12.7,3.75) 16(-12.7,3.25) 17(-12.7,2.75) 18(-12.7,2.25) 19(-12.7,1.75) 20(-12.7,1.25) 21(-12.7,0.75) 22(-12.7,0.25) 23(-12.7,-0.25) 24(-12.7,-0.75) 25(-12.7,-1.25) 26(-12.7,-1.75) 27(-12.7,-2.25) 28(-12.7,-2.75) 29(-12.7,-3.25) 30(-12.7,-3.75) 31(-12.7,-4.25) 32(-12.7,-4.75) 33(-12.7,-5.25) 34(-12.7,-5.75) 35(-12.7,-6.25) 36(-12.7,-6.75) 37(-12.7,-7.25) 38(-12.7,-7.75) 39(-12.7,-8.25) 40(-12.7,-8.75) 41(-12.7,-9.25) 42(-12.7,-9.75) 43(-12.7,-10.25) 44(-12.7,-10.75) 89(12.7,-10.75) 90(12.7,-10.25) 91(12.7,-9.75) 92(12.7,-9.25) 93(12.7,-8.75) 94(12.7,-8.25) 95(12.7,-7.75) 96(12.7,-7.25) 97(12.7,-6.75) 98(12.7,-6.25) 99(12.7,-5.75) 100(12.7,-5.25) 101(12.7,-4.75) 102(12.7,-4.25) 103(12.7,-3.75) 104(12.7,-3.25) 105(12.7,-2.75) 106(12.7,-2.25) 107(12.7,-1.75) 108(12.7,-1.25) 109(12.7,-0.75) 110(12.7,-0.25) 111(12.7,0.25) 112(12.7,0.75) 113(12.7,1.25) 114(12.7,1.75) 115(12.7,2.25) 116(12.7,2.75) 117(12.7,3.25) 118(12.7,3.75) 119(12.7,4.25) 120(12.7,4.75) 121(12.7,5.25) 122(12.7,5.75) 123(12.7,6.25) 124(12.7,6.75) 125(12.7,7.25) 126(12.7,7.75) 127(12.7,8.25) 128(12.7,8.75) 129(12.7,9.25) 130(12.7,9.75) 131(12.7,10.25) 132(12.7,10.75)
  oval 0.3x1.4 smd: 45(-10.75,-12.7) 46(-10.25,-12.7) 47(-9.75,-12.7) 48(-9.25,-12.7) 49(-8.75,-12.7) 50(-8.25,-12.7) 51(-7.75,-12.7) 52(-7.25,-12.7) 53(-6.75,-12.7) 54(-6.25,-12.7) 55(-5.75,-12.7) 56(-5.25,-12.7) 57(-4.75,-12.7) 58(-4.25,-12.7) 59(-3.75,-12.7) 60(-3.25,-12.7) 61(-2.75,-12.7) 62(-2.25,-12.7) 63(-1.75,-12.7) 64(-1.25,-12.7) 65(-0.75,-12.7) 66(-0.25,-12.7) 67(0.25,-12.7) 68(0.75,-12.7) 69(1.25,-12.7) 70(1.75,-12.7) 71(2.25,-12.7) 72(2.75,-12.7) 73(3.25,-12.7) 74(3.75,-12.7) 75(4.25,-12.7) 76(4.75,-12.7) 77(5.25,-12.7) 78(5.75,-12.7) 79(6.25,-12.7) 80(6.75,-12.7) 81(7.25,-12.7) 82(7.75,-12.7) 83(8.25,-12.7) 84(8.75,-12.7) 85(9.25,-12.7) 86(9.75,-12.7) 87(10.25,-12.7) 88(10.75,-12.7) 133(10.75,12.7) 134(10.25,12.7) 135(9.75,12.7) 136(9.25,12.7) 137(8.75,12.7) 138(8.25,12.7) 139(7.75,12.7) 140(7.25,12.7) 141(6.75,12.7) 142(6.25,12.7) 143(5.75,12.7) 144(5.25,12.7) 145(4.75,12.7) 146(4.25,12.7) 147(3.75,12.7) 148(3.25,12.7) 149(2.75,12.7) 150(2.25,12.7) 151(1.75,12.7) 152(1.25,12.7) 153(0.75,12.7) 154(0.25,12.7) 155(-0.25,12.7) 156(-0.75,12.7) 157(-1.25,12.7) 158(-1.75,12.7) 159(-2.25,12.7) 160(-2.75,12.7) 161(-3.25,12.7) 162(-3.75,12.7) 163(-4.25,12.7) 164(-4.75,12.7) 165(-5.25,12.7) 166(-5.75,12.7) 167(-6.25,12.7) 168(-6.75,12.7) 169(-7.25,12.7) 170(-7.75,12.7) 171(-8.25,12.7) 172(-8.75,12.7) 173(-9.25,12.7) 174(-9.75,12.7) 175(-10.25,12.7) 176(-10.75,12.7)
Top Overlay:
  circle w0.6: c-10.6,10.6 r0.3
  circle w0.25: c-12.7,11.45 r0.125
  lines w0.2: -11.6,-11.6 11.6,-11.6 11.6,11.6 -11.6,11.6 -11.6,-11.6
Top Assembly:
  circle w0.1: c-11.1,11.1 r0.5
  lines w0.1: -12,-12 12,-12 12,12 -12,12 -12,-12
Top Courtyard:
  lines w0.05: -13.65,-13.65 13.65,-13.65 13.65,13.65 -13.65,13.65 -13.65,-13.65
  lines w0.1: -0.5,0 0.5,0 ; 0,-0.5 0,0.5
3D body "QFP127P600-8N.step": height 1.6, standoff 0, extent -13,-13 13,13

## STM32H747IGT6 [mm] "LQFP is a 176-pin, 24 x 24 mm, 0.5 mm pitch, low profile quad flat package."
height 1.6
pads (176):
  oval 1.4x0.3 smd: 1(-12.7,10.75) 2(-12.7,10.25) 3(-12.7,9.75) 4(-12.7,9.25) 5(-12.7,8.75) 6(-12.7,8.25) 7(-12.7,7.75) 8(-12.7,7.25) 9(-12.7,6.75) 10(-12.7,6.25) 11(-12.7,5.75) 12(-12.7,5.25) 13(-12.7,4.75) 14(-12.7,4.25) 15(-12.7,3.75) 16(-12.7,3.25) 17(-12.7,2.75) 18(-12.7,2.25) 19(-12.7,1.75) 20(-12.7,1.25) 21(-12.7,0.75) 22(-12.7,0.25) 23(-12.7,-0.25) 24(-12.7,-0.75) 25(-12.7,-1.25) 26(-12.7,-1.75) 27(-12.7,-2.25) 28(-12.7,-2.75) 29(-12.7,-3.25) 30(-12.7,-3.75) 31(-12.7,-4.25) 32(-12.7,-4.75) 33(-12.7,-5.25) 34(-12.7,-5.75) 35(-12.7,-6.25) 36(-12.7,-6.75) 37(-12.7,-7.25) 38(-12.7,-7.75) 39(-12.7,-8.25) 40(-12.7,-8.75) 41(-12.7,-9.25) 42(-12.7,-9.75) 43(-12.7,-10.25) 44(-12.7,-10.75) 89(12.7,-10.75) 90(12.7,-10.25) 91(12.7,-9.75) 92(12.7,-9.25) 93(12.7,-8.75) 94(12.7,-8.25) 95(12.7,-7.75) 96(12.7,-7.25) 97(12.7,-6.75) 98(12.7,-6.25) 99(12.7,-5.75) 100(12.7,-5.25) 101(12.7,-4.75) 102(12.7,-4.25) 103(12.7,-3.75) 104(12.7,-3.25) 105(12.7,-2.75) 106(12.7,-2.25) 107(12.7,-1.75) 108(12.7,-1.25) 109(12.7,-0.75) 110(12.7,-0.25) 111(12.7,0.25) 112(12.7,0.75) 113(12.7,1.25) 114(12.7,1.75) 115(12.7,2.25) 116(12.7,2.75) 117(12.7,3.25) 118(12.7,3.75) 119(12.7,4.25) 120(12.7,4.75) 121(12.7,5.25) 122(12.7,5.75) 123(12.7,6.25) 124(12.7,6.75) 125(12.7,7.25) 126(12.7,7.75) 127(12.7,8.25) 128(12.7,8.75) 129(12.7,9.25) 130(12.7,9.75) 131(12.7,10.25) 132(12.7,10.75)
  oval 0.3x1.4 smd: 45(-10.75,-12.7) 46(-10.25,-12.7) 47(-9.75,-12.7) 48(-9.25,-12.7) 49(-8.75,-12.7) 50(-8.25,-12.7) 51(-7.75,-12.7) 52(-7.25,-12.7) 53(-6.75,-12.7) 54(-6.25,-12.7) 55(-5.75,-12.7) 56(-5.25,-12.7) 57(-4.75,-12.7) 58(-4.25,-12.7) 59(-3.75,-12.7) 60(-3.25,-12.7) 61(-2.75,-12.7) 62(-2.25,-12.7) 63(-1.75,-12.7) 64(-1.25,-12.7) 65(-0.75,-12.7) 66(-0.25,-12.7) 67(0.25,-12.7) 68(0.75,-12.7) 69(1.25,-12.7) 70(1.75,-12.7) 71(2.25,-12.7) 72(2.75,-12.7) 73(3.25,-12.7) 74(3.75,-12.7) 75(4.25,-12.7) 76(4.75,-12.7) 77(5.25,-12.7) 78(5.75,-12.7) 79(6.25,-12.7) 80(6.75,-12.7) 81(7.25,-12.7) 82(7.75,-12.7) 83(8.25,-12.7) 84(8.75,-12.7) 85(9.25,-12.7) 86(9.75,-12.7) 87(10.25,-12.7) 88(10.75,-12.7) 133(10.75,12.7) 134(10.25,12.7) 135(9.75,12.7) 136(9.25,12.7) 137(8.75,12.7) 138(8.25,12.7) 139(7.75,12.7) 140(7.25,12.7) 141(6.75,12.7) 142(6.25,12.7) 143(5.75,12.7) 144(5.25,12.7) 145(4.75,12.7) 146(4.25,12.7) 147(3.75,12.7) 148(3.25,12.7) 149(2.75,12.7) 150(2.25,12.7) 151(1.75,12.7) 152(1.25,12.7) 153(0.75,12.7) 154(0.25,12.7) 155(-0.25,12.7) 156(-0.75,12.7) 157(-1.25,12.7) 158(-1.75,12.7) 159(-2.25,12.7) 160(-2.75,12.7) 161(-3.25,12.7) 162(-3.75,12.7) 163(-4.25,12.7) 164(-4.75,12.7) 165(-5.25,12.7) 166(-5.75,12.7) 167(-6.25,12.7) 168(-6.75,12.7) 169(-7.25,12.7) 170(-7.75,12.7) 171(-8.25,12.7) 172(-8.75,12.7) 173(-9.25,12.7) 174(-9.75,12.7) 175(-10.25,12.7) 176(-10.75,12.7)
Top Overlay:
  circle w0.6: c-10.6,10.6 r0.3
  circle w0.25: c-12.7,11.45 r0.125
  lines w0.2: -11.6,-11.6 11.6,-11.6 11.6,11.6 -11.6,11.6 -11.6,-11.6
Top Assembly:
  circle w0.1: c-11.1,11.1 r0.5
  lines w0.1: -12,-12 12,-12 12,12 -12,12 -12,-12
Top Courtyard:
  lines w0.05: -13.65,-13.65 13.65,-13.65 13.65,13.65 -13.65,13.65 -13.65,-13.65
  lines w0.1: -0.5,0 0.5,0 ; 0,-0.5 0,0.5
3D body "QFP127P600-8N.step": height 1.6, standoff 0, extent -13,-13 13,13